# Altium schematic symbol library VNH5019.SchLib: 1 symbol
Pins are listed as number, name and electrical type; pins without a type are passive.

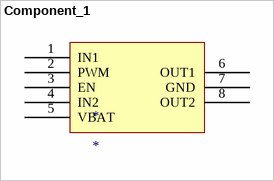
[diagram p0: symbol Component_1]

## Component_1
designator *
footprint VNH5019 (Footprint not found)
pins: 1 IN1, 2 PWM, 3 EN, 4 IN2, 5 VBAT, 6 OUT1, 7 GND, 8 OUT2